# Altium schematic symbol library RES(4.7, 0.01, 2W, SMD-2512).SchLib: 1 symbol
Pins are listed as number, name and electrical type; pins without a type are passive.

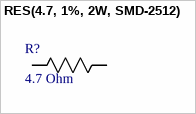
[diagram p0: symbol RES(4.7, 1%, 2W, SMD-2512)]

## RES(4.7, 1%, 2W, SMD-2512)
designator R?, comment 4.7 Ohm
Thick Film Resistors - SMD 2watts 1% 4.7ohms 100 PPM 2512; Manufacturer: Bourns Inc.; Manufacturer_PN: CRM2512-FX-4R70ELF; Package: SMD-2512; Datasheet: https://www.bourns.com/docs/product-datasheets/crm.pdf; Digikey_Link: https://www.digikey.it/en/products/detail/bourns-inc/CRM2512-FX-4R70ELF/6153147
footprint RESC6331X80N
pins: 1, 2